# Altium integrated library Micron Memory Parallel NOR Flash.IntLib: 720 symbols (part 158 of 216)
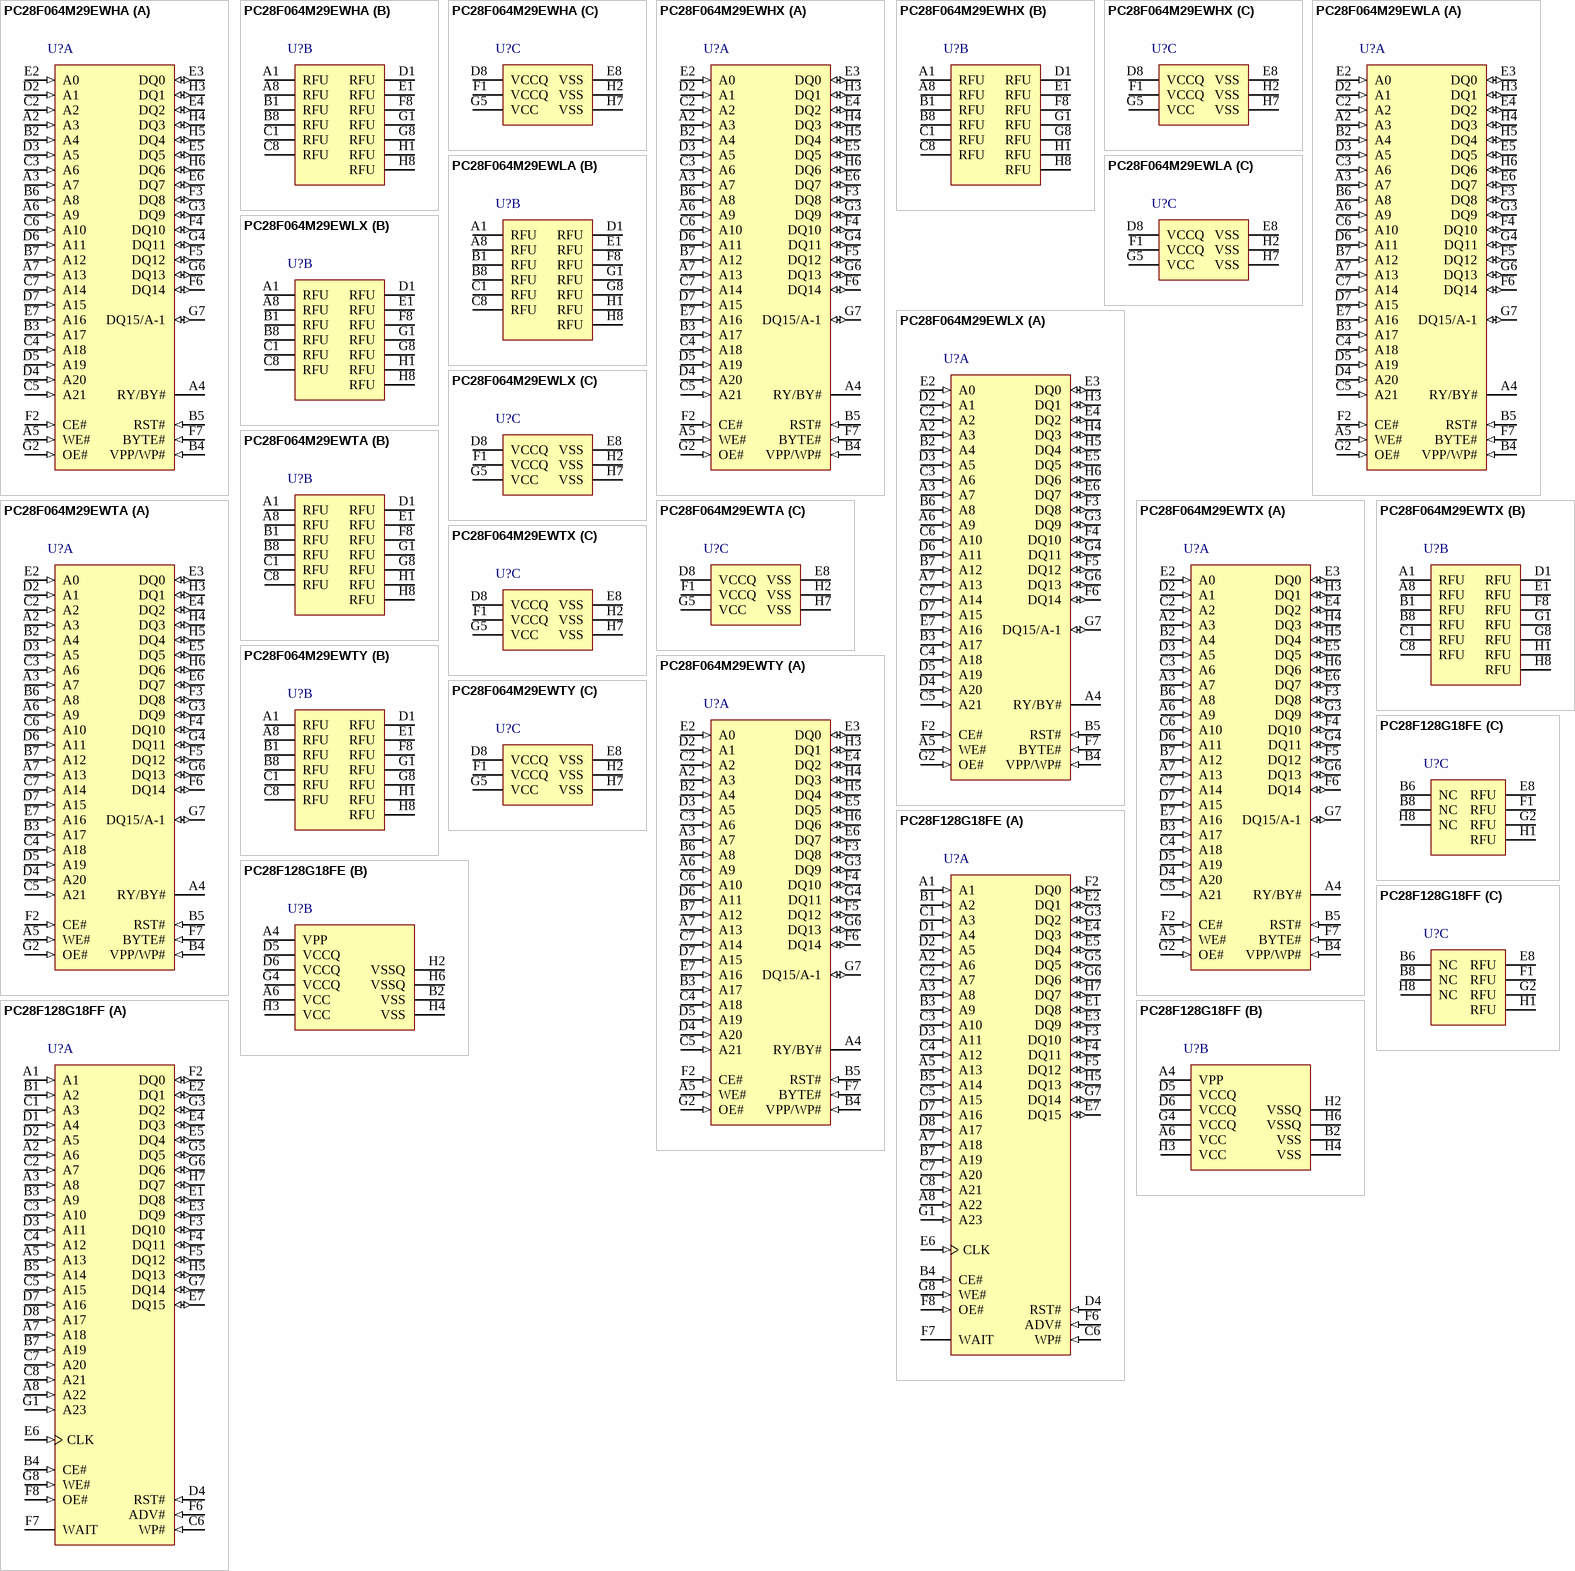
[diagram p192: symbols PC28F064M29EWHA to PC28F128G18FF]

## PC28F128G18FE
designator U?
128 Mb (x16) Parallel NOR Flash Memory, 96 ns, 1.7 to 2.0 V, 64-ball Easy BGA (PC), Tray; Part Family: G18; Manufacturer: Micron; PartNumber: PC28F128G18FE; Density: 128Mb; Op Temp: -40C to +85C; Speed: 96ns; Voltage: 1.7V-2.0V; DatasheetVersion: Rev. F; PackageVersion: Rev. 5; PackageReference: MICT-PC-64-8000X10000X1200DEA; PackageDescription: 64-Ball BGA, 8 x 10 mm, Pitch 1 mm; RoHS: Yes; Width: x16; Mounting Technology: Surface Mount; ComponentLink1Description: Manufacturer URL; ComponentLink1URL: http://www.micron.com/; ComponentLink2Description: Datasheet; ComponentLink2URL: http://www.micron.com/~/media/Documents/Products/Data%20Sheet/NOR%20Flash/Parallel/G18/128_256_512_1Gb_65nm_g18.pdf; ComponentLink3Description: Package Specification; ComponentLink3URL: http://www.micron.com/~/media/Documents/Products/Data%20Sheet/NOR%20Flash/Parallel/P33/314749_P33_130nm_Discrete_DS.pdf
footprint MICT-PC-64-8000X10000X1200DEA (BGA, 64-Balls, Body 10x8mm, Pitch 1mm)
part A pins: A1 (in) "Address Input: Address Input for all READ/WRITE cycles.", A2 A6 (in) "Address Input: Address Input for all READ/WRITE cycles.", A3 A8 (in) "Address Input: Address Input for all READ/WRITE cycles.", A5 A13 (in) "Address Input: Address Input for all READ/WRITE cycles.", A7 A18 (in) "Address Input: Address Input for all READ/WRITE cycles.", A8 A22 (in) "Address Input: Address Input for all READ/WRITE cycles.", B1 A2 (in) "Address Input: Address Input for all READ/WRITE cycles.", B3 A9 (in) "Address Input: Address Input for all READ/WRITE cycles.", B4 CE# (in) "Chip enable: LOW true input. When LOW, CE# selects the die; when HIGH, CE# deselects the die and places it in standby.", B5 A14 (in) "Address Input: Address Input for all READ/WRITE cycles.", B7 A19 (in) "Address Input: Address Input for all READ/WRITE cycles.", C1 A3 (in) "Address Input: Address Input for all READ/WRITE cycles.", C2 A7 (in) "Address Input: Address Input for all READ/WRITE cycles.", C3 A10 (in) "Address Input: Address Input for all READ/WRITE cycles.", C4 A12 (in) "Address Input: Address Input for all READ/WRITE cycles.", C5 A15 (in) "Address Input: Address Input for all READ/WRITE cycles.", C6 WP# (in) "Write protect: LOW true input. When LOW, WP# enables block lock down; when HIGH, WP# disables block lock down.", C7 A20 (in) "Address Input: Address Input for all READ/WRITE cycles.", C8 A21 (in) "Address Input: Address Input for all READ/WRITE cycles.", D1 A4 (in) "Address Input: Address Input for all READ/WRITE cycles.", D2 A5 (in) "Address Input: Address Input for all READ/WRITE cycles.", D3 A11 (in) "Address Input: Address Input for all READ/WRITE cycles.", D4 RST# (in) "Reset: LOW true input. When LOW, RST# inhibits all operations; must be HIGH for normal operations.", D7 A16 (in) "Address Input: Address Input for all READ/WRITE cycles.", D8 A17 (in) "Address Input: Address Input for all READ/WRITE cycles.", E1 DQ8 (io) "Data: Data or command Input during WRITE cycles; data, status, or device information Output during READ cycles.", E2 DQ1 (io) "Data: Data or command Input during WRITE cycles; data, status, or device information Output during READ cycles.", E3 DQ9 (io) "Data: Data or command Input during WRITE cycles; data, status, or device information Output during READ cycles.", E4 DQ3 (io) "Data: Data or command Input during WRITE cycles; data, status, or device information Output during READ cycles.", E5 DQ4 (io) "Data: Data or command Input during WRITE cycles; data, status, or device information Output during READ cycles.", E6 CLK (in) "Clock: Synchronizes burst READ operations with the host controller.", E7 DQ15 (io) "Data: Data or command inputs during WRITE cycles; data, status, or device information outputs during READ cycles.", F2 DQ0 (io) "Data: Data or command Input during WRITE cycles; data, status, or device information Output during READ cycles.", F3 DQ10 (io) "Data: Data or command Input during WRITE cycles; data, status, or device information Output during READ cycles.", F4 DQ11 (io) "Data: Data or command Input during WRITE cycles; data, status, or device information Output during READ cycles.", F5 DQ12 (io) "Data: Data or command Input during WRITE cycles; data, status, or device information Output during READ cycles.", F6 ADV# (in) "Address valid: LOW true input. When LOW, ADV# enables address inputs. For synchronous burst READs, address inputs are latched on the rising edge.", F7 WAIT (hiz) "WAIT: Configurable HIGH or LOW true output. When asserted, WAIT indicates DQ[15:0] is invalid; when de-asserted, WAIT indicates DQ[15:0] is valid.", F8 OE# (in) "Output enable: LOW true input. Must be LOW for READs and HIGH for WRITEs.", G1 A23 (in) "Address Input: Address Input for all READ/WRITE cycles.", G3 DQ2 (io) "Data: Data or command input during WRITE cycles; data, status, or device information Output during READ cycles.", G5 DQ5 (io) "Data: Data or command Input during WRITE cycles; data, status, or device information Output during READ cycles.", G6 DQ6 (io) "Data: Data or command Input during WRITE cycles; data, status, or device information Output during READ cycles.", G7 DQ14 (io) "Data: Data or command Input during WRITE cycles; data, status, or device information Output during READ cycles.", G8 WE# (in) "Write enable: LOW true input. Must be LOW for WRITEs and HIGH for READs.", H5 DQ13 (io) "Data: Data or command Input during WRITE cycles; data, status, or device information Output during READ cycles.", H7 DQ7 (io) "Data: Data or command Input during WRITE cycles; data, status, or device information Output during READ cycles."
part B pins: A4 VPP (power) "Erase and Program Power: A valid voltage on this pin allows erasing or programming. Memory contents cannot be altered when VPP =< VPPLK. Block erase and program at invalid VPP voltages should not be attempted. Set VPP = VPPL (See Datasheet)", A6 VCC (power) "Device Core Power Supply: Core (logic) source voltage. Writes to the flash array are inhibited when VCC =< VLKO. Operations at invalid VCC voltages should not be attempted.", B2 VSS (power) "Ground: Connect to system ground. Do not float any VSS connection.", D5 VCCQ (power) "I/O power: Supply voltage for all I/O drivers. All operations are inhibited when VCCQ is at or below VLKOQ.", D6 VCCQ (power) "I/O power: Supply voltage for all I/O drivers. All operations are inhibited when VCCQ is at or below VLKOQ.", G4 VCCQ (power) "I/O power: Supply voltage for all I/O drivers. All operations are inhibited when VCCQ is at or below VLKOQ.", H2 VSSQ (power) "I/O ground: I/O driver ground return. Connect all VSSQ balls to system ground; do not float any VSSQ balls.", H3 VCC (power) "Core power: Supply voltage for core circuits. All operations are inhibited when VCC is at or below VLKO.", H4 VSS (power) "Logic ground: Core logic ground return. Connect all VSS balls to system ground; do not float any VSS balls.", H6 VSSQ (power) "I/O ground: I/O driver ground return. Connect all VSSQ balls to system ground; do not float any VSSQ balls."
part C pins: B6 NC "no connect", B8 NC "no connect", E8 RFU "Reserved for Future Use: Reserved by Numonyx for future device functionality and enhancement. These should be treated in the same way as a Do Not Use (DU) signal.", F1 RFU "Reserved for Future Use: Reserved by Numonyx for future device functionality and enhancement. These should be treated in the same way as a Do Not Use (DU) signal.", G2 RFU "Reserved for Future Use: Reserved by Numonyx for future device functionality and enhancement. These should be treated in the same way as a Do Not Use (DU) signal.", H1 RFU "Reserved for Future Use: Reserved by Numonyx for future device functionality and enhancement. These should be treated in the same way as a Do Not Use (DU) signal.", H8 NC "no connect"

## PC28F128G18FF
designator U?
128 Mb (x16) Parallel NOR Flash Memory, 96 ns, 1.7 to 2.0 V, 64-ball Easy BGA (PC), Tape & Reel; Part Family: G18; Manufacturer: Micron; PartNumber: PC28F128G18FF; Density: 128Mb; Op Temp: -40C to +85C; Speed: 96ns; Voltage: 1.7V-2.0V; DatasheetVersion: Rev. F; PackageVersion: Rev. 5; PackageReference: MICT-PC-64-8000X10000X1200DEA; PackageDescription: 64-Ball BGA, 8 x 10 mm, Pitch 1 mm; RoHS: Yes; Width: x16; Mounting Technology: Surface Mount; ComponentLink1Description: Manufacturer URL; ComponentLink1URL: http://www.micron.com/; ComponentLink2Description: Datasheet; ComponentLink2URL: http://www.micron.com/~/media/Documents/Products/Data%20Sheet/NOR%20Flash/Parallel/G18/128_256_512_1Gb_65nm_g18.pdf; ComponentLink3Description: Package Specification; ComponentLink3URL: http://www.micron.com/~/media/Documents/Products/Data%20Sheet/NOR%20Flash/Parallel/P33/314749_P33_130nm_Discrete_DS.pdf
footprint MICT-PC-64-8000X10000X1200DEA (BGA, 64-Balls, Body 10x8mm, Pitch 1mm)
part A pins: A1 (in) "Address Input: Address Input for all READ/WRITE cycles.", A2 A6 (in) "Address Input: Address Input for all READ/WRITE cycles.", A3 A8 (in) "Address Input: Address Input for all READ/WRITE cycles.", A5 A13 (in) "Address Input: Address Input for all READ/WRITE cycles.", A7 A18 (in) "Address Input: Address Input for all READ/WRITE cycles.", A8 A22 (in) "Address Input: Address Input for all READ/WRITE cycles.", B1 A2 (in) "Address Input: Address Input for all READ/WRITE cycles.", B3 A9 (in) "Address Input: Address Input for all READ/WRITE cycles.", B4 CE# (in) "Chip enable: LOW true input. When LOW, CE# selects the die; when HIGH, CE# deselects the die and places it in standby.", B5 A14 (in) "Address Input: Address Input for all READ/WRITE cycles.", B7 A19 (in) "Address Input: Address Input for all READ/WRITE cycles.", C1 A3 (in) "Address Input: Address Input for all READ/WRITE cycles.", C2 A7 (in) "Address Input: Address Input for all READ/WRITE cycles.", C3 A10 (in) "Address Input: Address Input for all READ/WRITE cycles.", C4 A12 (in) "Address Input: Address Input for all READ/WRITE cycles.", C5 A15 (in) "Address Input: Address Input for all READ/WRITE cycles.", C6 WP# (in) "Write protect: LOW true input. When LOW, WP# enables block lock down; when HIGH, WP# disables block lock down.", C7 A20 (in) "Address Input: Address Input for all READ/WRITE cycles.", C8 A21 (in) "Address Input: Address Input for all READ/WRITE cycles.", D1 A4 (in) "Address Input: Address Input for all READ/WRITE cycles.", D2 A5 (in) "Address Input: Address Input for all READ/WRITE cycles.", D3 A11 (in) "Address Input: Address Input for all READ/WRITE cycles.", D4 RST# (in) "Reset: LOW true input. When LOW, RST# inhibits all operations; must be HIGH for normal operations.", D7 A16 (in) "Address Input: Address Input for all READ/WRITE cycles.", D8 A17 (in) "Address Input: Address Input for all READ/WRITE cycles.", E1 DQ8 (io) "Data: Data or command Input during WRITE cycles; data, status, or device information Output during READ cycles.", E2 DQ1 (io) "Data: Data or command Input during WRITE cycles; data, status, or device information Output during READ cycles.", E3 DQ9 (io) "Data: Data or command Input during WRITE cycles; data, status, or device information Output during READ cycles.", E4 DQ3 (io) "Data: Data or command Input during WRITE cycles; data, status, or device information Output during READ cycles.", E5 DQ4 (io) "Data: Data or command Input during WRITE cycles; data, status, or device information Output during READ cycles.", E6 CLK (in) "Clock: Synchronizes burst READ operations with the host controller.", E7 DQ15 (io) "Data: Data or command inputs during WRITE cycles; data, status, or device information outputs during READ cycles.", F2 DQ0 (io) "Data: Data or command Input during WRITE cycles; data, status, or device information Output during READ cycles.", F3 DQ10 (io) "Data: Data or command Input during WRITE cycles; data, status, or device information Output during READ cycles.", F4 DQ11 (io) "Data: Data or command Input during WRITE cycles; data, status, or device information Output during READ cycles.", F5 DQ12 (io) "Data: Data or command Input during WRITE cycles; data, status, or device information Output during READ cycles.", F6 ADV# (in) "Address valid: LOW true input. When LOW, ADV# enables address inputs. For synchronous burst READs, address inputs are latched on the rising edge.", F7 WAIT (hiz) "WAIT: Configurable HIGH or LOW true output. When asserted, WAIT indicates DQ[15:0] is invalid; when de-asserted, WAIT indicates DQ[15:0] is valid.", F8 OE# (in) "Output enable: LOW true input. Must be LOW for READs and HIGH for WRITEs.", G1 A23 (in) "Address Input: Address Input for all READ/WRITE cycles.", G3 DQ2 (io) "Data: Data or command input during WRITE cycles; data, status, or device information Output during READ cycles.", G5 DQ5 (io) "Data: Data or command Input during WRITE cycles; data, status, or device information Output during READ cycles.", G6 DQ6 (io) "Data: Data or command Input during WRITE cycles; data, status, or device information Output during READ cycles.", G7 DQ14 (io) "Data: Data or command Input during WRITE cycles; data, status, or device information Output during READ cycles.", G8 WE# (in) "Write enable: LOW true input. Must be LOW for WRITEs and HIGH for READs.", H5 DQ13 (io) "Data: Data or command Input during WRITE cycles; data, status, or device information Output during READ cycles.", H7 DQ7 (io) "Data: Data or command Input during WRITE cycles; data, status, or device information Output during READ cycles."
part B pins: A4 VPP (power) "Erase and Program Power: A valid voltage on this pin allows erasing or programming. Memory contents cannot be altered when VPP =< VPPLK. Block erase and program at invalid VPP voltages should not be attempted. Set VPP = VPPL (See Datasheet)", A6 VCC (power) "Device Core Power Supply: Core (logic) source voltage. Writes to the flash array are inhibited when VCC =< VLKO. Operations at invalid VCC voltages should not be attempted.", B2 VSS (power) "Ground: Connect to system ground. Do not float any VSS connection.", D5 VCCQ (power) "I/O power: Supply voltage for all I/O drivers. All operations are inhibited when VCCQ is at or below VLKOQ.", D6 VCCQ (power) "I/O power: Supply voltage for all I/O drivers. All operations are inhibited when VCCQ is at or below VLKOQ.", G4 VCCQ (power) "I/O power: Supply voltage for all I/O drivers. All operations are inhibited when VCCQ is at or below VLKOQ.", H2 VSSQ (power) "I/O ground: I/O driver ground return. Connect all VSSQ balls to system ground; do not float any VSSQ balls.", H3 VCC (power) "Core power: Supply voltage for core circuits. All operations are inhibited when VCC is at or below VLKO.", H4 VSS (power) "Logic ground: Core logic ground return. Connect all VSS balls to system ground; do not float any VSS balls.", H6 VSSQ (power) "I/O ground: I/O driver ground return. Connect all VSSQ balls to system ground; do not float any VSSQ balls."
part C pins: B6 NC "no connect", B8 NC "no connect", E8 RFU "Reserved for Future Use: Reserved by Numonyx for future device functionality and enhancement. These should be treated in the same way as a Do Not Use (DU) signal.", F1 RFU "Reserved for Future Use: Reserved by Numonyx for future device functionality and enhancement. These should be treated in the same way as a Do Not Use (DU) signal.", G2 RFU "Reserved for Future Use: Reserved by Numonyx for future device functionality and enhancement. These should be treated in the same way as a Do Not Use (DU) signal.", H1 RFU "Reserved for Future Use: Reserved by Numonyx for future device functionality and enhancement. These should be treated in the same way as a Do Not Use (DU) signal.", H8 NC "no connect"

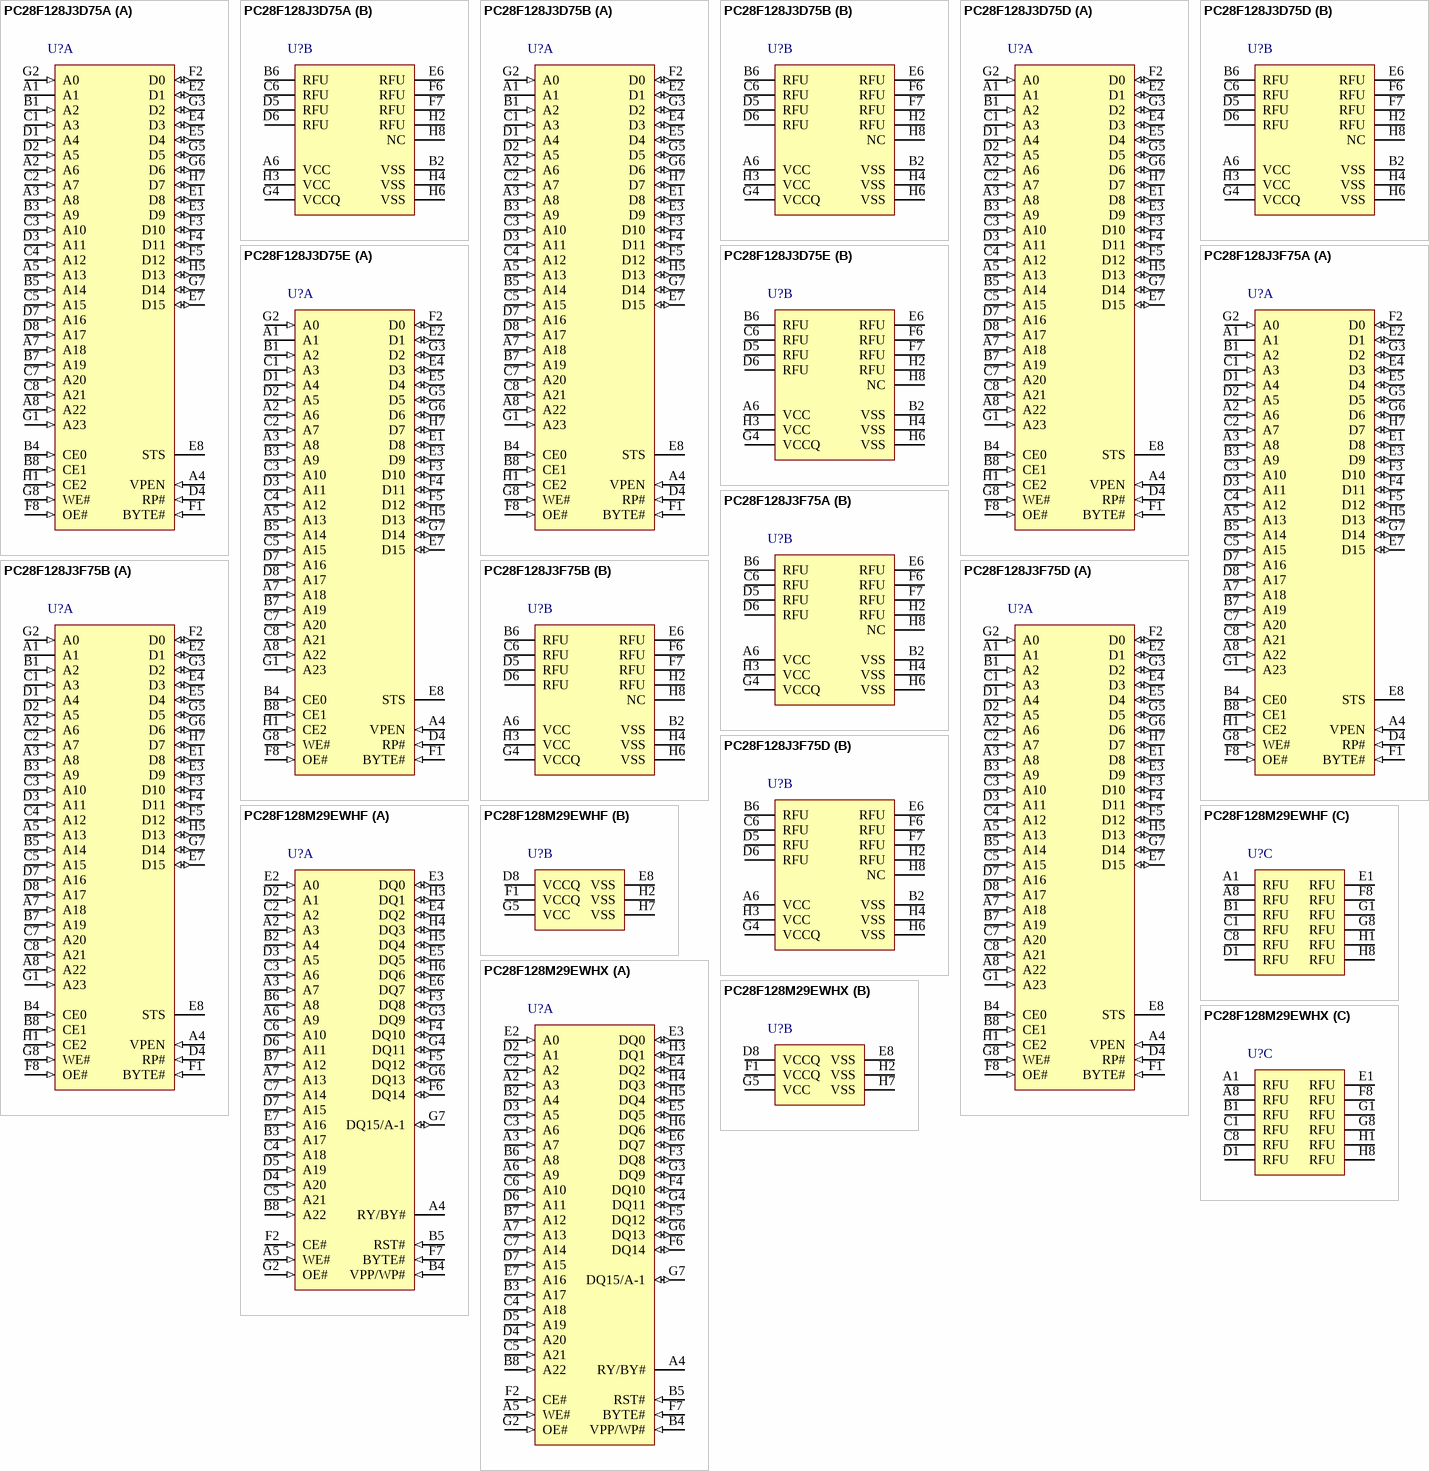
[diagram p42: symbols PC28F128J3D75A to PC28F128M29EWHX]

## PC28F128J3D75A
designator U?
128 Mb (x8/x16) Parallel NOR Flash Memory, 75 ns, 2.7 to 3.6 V, 64-ball Easy BGA (PC), Tray; Part Family: J3; Manufacturer: Micron; PartNumber: PC28F128J3D75A; Density: 128Mb; Op Temp: -40C to +85C; Speed: 75ns; Voltage: 2.7V-3.6V; DatasheetVersion: Rev. 06; PackageVersion: Rev. 10; PackageReference: MICT-PC-64-13000X10000X1200DEA; PackageDescription: 64-Ball BGA, 13 x 10 mm, Pitch 1 mm; RoHS: Yes; Width: x8/x16; Mounting Technology: Surface Mount; ComponentLink1Description: Manufacturer URL; ComponentLink1URL: http://www.micron.com/; ComponentLink2Description: Datasheet; ComponentLink2URL: http://www.micron.com/~/media/Documents/Products/Data%20Sheet/NOR%20Flash/Parallel/J3/316577_J3D_Monolithic_DS.pdf; ComponentLink3Description: Package Specification; ComponentLink3URL: http://www.micron.com/~/media/Documents/Products/Data%20Sheet/NOR%20Flash/Parallel/J3/316577_J3D_Monolithic_DS.pdf
footprint MICT-PC-64-13000X10000X1200DEA (BGA, 64-Balls, Body 13x10mm, Pitch 1mm)
part A pins: A1, A2 A6 (in) "ADDRESS INPUT: Input for address during read and program operations.", A3 A8 (in) "ADDRESS INPUT: Input for address during read and program operations.", A4 VPEN (in) "ERASE / PROGRAM / BLOCK LOCK ENABLE: For erasing array blocks, programming data, or configuring lock-bits. With VPEN =< VPENLK, memory contents cannot be altered.", A5 A13 (in) "ADDRESS INPUT: Input for address during read and program operations.", A7 A18 (in) "ADDRESS INPUT: Input for address during read and program operations.", A8 A22 (in) "ADDRESS INPUT: Input for address during read and program operations.", B1 A2 (in) "ADDRESS INPUT: Input for address during read and program operations.", B3 A9 (in) "ADDRESS INPUT: Input for address during read and program operations.", B4 CE0 (in) "CHIP ENABLE: Activate the 32-, 64-, 128-, and 256-Mbit devices’ control logic, input buffers, decoders, and sense amplifiers. When the device is de-selected (see Table 16, "Chip Enable Truth Table for 32-, 64-, 128- and (See Datasheet)", B5 A14 (in) "ADDRESS INPUT: Input for address during read and program operations.", B7 A19 (in) "ADDRESS INPUT: Input for address during read and program operations.", B8 CE1 (in) "CHIP ENABLE: Activate the 32-, 64-, 128-, and 256-Mbit devices’ control logic, input buffers, decoders, and sense amplifiers. When the device is de-selected (see Table 16, "Chip Enable Truth Table for 32-, 64-, 128- and (See Datasheet)", C1 A3 (in) "ADDRESS INPUT: Input for address during read and program operations.", C2 A7 (in) "ADDRESS INPUT: Input for address during read and program operations.", C3 A10 (in) "ADDRESS INPUT: Input for address during read and program operations.", C4 A12 (in) "ADDRESS INPUT: Input for address during read and program operations.", C5 A15 (in) "ADDRESS INPUT: Input for address during read and program operations.", C7 A20 (in) "ADDRESS INPUT: Input for address during read and program operations.", C8 A21 (in) "ADDRESS INPUT: Input for address during read and program operations.", D1 A4 (in) "ADDRESS INPUT: Input for address during read and program operations.", D2 A5 (in) "ADDRESS INPUT: Input for address during read and program operations.", D3 A11 (in) "ADDRESS INPUT: Input for address during read and program operations.", D4 RP# (in) "RESET: RP#-low resets internal automation and puts the device in power-down mode. RP#-high enables normal operation. Exit from reset sets the device to read array mode. When driven low, RP# inhibits write operations which (See Datasheet)", D7 A16 (in) "ADDRESS INPUT: Input for address during read and program operations.", D8 A17 (in) "ADDRESS INPUT: Input for address during read and program operations.", E1 D8 (io) "HIGH-BYTE DATA BUS: Inputs data during x16 buffer writes and programming operations. Outputs array, CFI, or identifier data in the appropriate read mode; not used for Status Register reads. Data is internally latched during (See Datasheet)", E2 D1 (io) "LOW-BYTE DATA BUS: Inputs data during buffer writes and programming, and inputs commands during CUI writes. Outputs array, CFI, identifier, or status data in the appropriate read mode. Data is internally latched during write (See Datasheet)", E3 D9 (io) "HIGH-BYTE DATA BUS: Inputs data during x16 buffer writes and programming operations. Outputs array, CFI, or identifier data in the appropriate read mode; not used for Status Register reads. Data is internally latched during (See Datasheet)", E4 D3 (io) "LOW-BYTE DATA BUS: Inputs data during buffer writes and programming, and inputs commands during CUI writes. Outputs array, CFI, identifier, or status data in the appropriate read mode. Data is internally latched during write (See Datasheet)", E5 D4 (io) "LOW-BYTE DATA BUS: Inputs data during buffer writes and programming, and inputs commands during CUI writes. Outputs array, CFI, identifier, or status data in the appropriate read mode. Data is internally latched during write (See Datasheet)", E7 D15 (io) "HIGH-BYTE DATA BUS: Inputs data during x16 buffer writes and programming operations. Outputs array, CFI, or identifier data in the appropriate read mode; not used for Status Register reads. Data is internally latched during (See Datasheet)", E8 STS (hiz) "STATUS: Indicates the status of the internal state machine. When configured in level mode (default), it acts as a RY/BY# signal. When configured in one of its pulse modes, it can pulse to indicate program and/or erase (See Datasheet)", F1 BYTE# (in) "BYTE ENABLE: BYTE#-low places the device in x8 mode; data is input or output on D[7:0], while D[15:8] is placed in High-Z. Address A0 selects between the high and low byte. BYTE#-high places the device in x16 mode, and turns (See Datasheet)", F2 D0 (io) "LOW-BYTE DATA BUS: Inputs data during buffer writes and programming, and Inputs commands during CUI writes. Outputs array, CFI, identifier, or status data in the appropriate read mode. Data is internally latched during write (See Datasheet)", F3 D10 (io) "HIGH-BYTE DATA BUS: Inputs data during x16 buffer writes and programming operations. Outputs array, CFI, or identifier data in the appropriate read mode; not used for Status Register reads. Data is internally latched during (See Datasheet)", F4 D11 (io) "HIGH-BYTE DATA BUS: Inputs data during x16 buffer writes and programming operations. Outputs array, CFI, or identifier data in the appropriate read mode; not used for Status Register reads. Data is internally latched during (See Datasheet)", F5 D12 (io) "HIGH-BYTE DATA BUS: Inputs data during x16 buffer writes and programming operations. Outputs array, CFI, or identifier data in the appropriate read mode; not used for Status Register reads. Data is internally latched during (See Datasheet)", F8 OE# (in) "OUTPUT ENABLE: Activates the device’s outputs through the data buffers during a read cycle. OE# is active low.", G1 A23 (in) "ADDRESS INPUT: Input for address during read and program operations.", G2 A0 (in) "BYTE-SELECT ADDRESS: Selects between high and low byte when the device is in x8 mode. This address is latched during a x8 program cycle. Not used in x16 mode (i.e., the A0 input buffer is turned off when BYTE# is high).", G3 D2 (io) "LOW-BYTE DATA BUS: Inputs data during buffer writes and programming, and inputs commands during CUI writes. Outputs array, CFI, identifier, or status data in the appropriate read mode. Data is internally latched during write (See Datasheet)", G5 D5 (io) "LOW-BYTE DATA BUS: Inputs data during buffer writes and programming, and inputs commands during CUI writes. Outputs array, CFI, identifier, or status data in the appropriate read mode. Data is internally latched during write (See Datasheet)", G6 D6 (io) "LOW-BYTE DATA BUS: Inputs data during buffer writes and programming, and inputs commands during CUI writes. Outputs array, CFI, identifier, or status data in the appropriate read mode. Data is internally latched during write (See Datasheet)", G7 D14 (io) "HIGH-BYTE DATA BUS: Inputs data during x16 buffer writes and programming operations. Outputs array, CFI, or identifier data in the appropriate read mode; not used for Status Register reads. Data is internally latched during (See Datasheet)", G8 WE# (in) "WRITE ENABLE: Controls writes to the CUI, the Write Buffer, and array blocks. WE# is active low. Addresses and data are latched on the rising edge of WE#.", H1 CE2 (in) "CHIP ENABLE: Activate the 32-, 64-, 128-, and 256-Mbit devices’ control logic, input buffers, decoders, and sense amplifiers. When the device is de-selected (see Table 16, "Chip Enable Truth Table for 32-, 64-, 128- and (See Datasheet)", H5 D13 (io) "HIGH-BYTE DATA BUS: Inputs data during x16 buffer writes and programming operations. Outputs array, CFI, or identifier data in the appropriate read mode; not used for Status Register reads. Data is internally latched during (See Datasheet)", H7 D7 (io) "LOW-BYTE DATA BUS: Inputs data during buffer writes and programming, and inputs commands during CUI writes. Outputs array, CFI, identifier, or status data in the appropriate read mode. Data is internally latched during write (See Datasheet)"
part B pins: A6 VCC (power) "CORE Power Supply: Core (logic) source voltage. Writes to the flash array are inhibited when VCC =< Vlko. Caution: Device operation at invalid Vcc voltages should not be attempted.", B2 VSS (power) "GROUND: Ground reference for device logic voltages. Connect to system ground.", B6 RFU "Reserved for Future Use: Balls designated as RFU are reserved by Numonyx for future device functionality and enhancement.", C6 RFU "Reserved for Future Use: Balls designated as RFU are reserved by Numonyx for future device functionality and enhancement.", D5 RFU "Reserved for Future Use: Balls designated as RFU are reserved by Numonyx for future device functionality and enhancement.", D6 RFU "Reserved for Future Use: Balls designated as RFU are reserved by Numonyx for future device functionality and enhancement.", E6 RFU "Reserved for Future Use: Balls designated as RFU are reserved by Numonyx for future device functionality and enhancement.", F6 RFU "Reserved for Future Use: Balls designated as RFU are reserved by Numonyx for future device functionality and enhancement.", F7 RFU "Reserved for Future Use: Balls designated as RFU are reserved by Numonyx for future device functionality and enhancement.", G4 VCCQ (power) "I/O Power Supply: Power supply for Input/Output buffers.This ball can be tied directly to VCC.", H2 RFU "Reserved for Future Use: Balls designated as RFU are reserved by Numonyx for future device functionality and enhancement.", H3 VCC (power) "CORE Power Supply: Core (logic) source voltage. Writes to the flash array are inhibited when VCC =< Vlko. Caution: Device operation at invalid Vcc voltages should not be attempted.", H4 VSS (power) "GROUND: Ground reference for device logic voltages. Connect to system ground.", H6 VSS (power) "GROUND: Ground reference for device logic voltages. Connect to system ground.", H8 NC "No Connect: Lead is not internally connected; it may be driven or floated."

## PC28F128J3D75B
designator U?
128 Mb (x8/x16) Parallel NOR Flash Memory, 75 ns, 2.7 to 3.6 V, 64-ball Easy BGA (PC), Tape & Reel; Part Family: J3; Manufacturer: Micron; PartNumber: PC28F128J3D75B; Density: 128Mb; Op Temp: -40C to +85C; Speed: 75ns; Voltage: 2.7V-3.6V; DatasheetVersion: Rev. 06; PackageVersion: Rev. 10; PackageReference: MICT-PC-64-13000X10000X1200DEA; PackageDescription: 64-Ball BGA, 13 x 10 mm, Pitch 1 mm; RoHS: Yes; Width: x8/x16; Mounting Technology: Surface Mount; ComponentLink1Description: Manufacturer URL; ComponentLink1URL: http://www.micron.com/; ComponentLink2Description: Datasheet; ComponentLink2URL: http://www.micron.com/~/media/Documents/Products/Data%20Sheet/NOR%20Flash/Parallel/J3/316577_J3D_Monolithic_DS.pdf; ComponentLink3Description: Package Specification; ComponentLink3URL: http://www.micron.com/~/media/Documents/Products/Data%20Sheet/NOR%20Flash/Parallel/J3/316577_J3D_Monolithic_DS.pdf
footprint MICT-PC-64-13000X10000X1200DEA (BGA, 64-Balls, Body 13x10mm, Pitch 1mm)
part A pins: A1, A2 A6 (in) "ADDRESS INPUT: Input for address during read and program operations.", A3 A8 (in) "ADDRESS INPUT: Input for address during read and program operations.", A4 VPEN (in) "ERASE / PROGRAM / BLOCK LOCK ENABLE: For erasing array blocks, programming data, or configuring lock-bits. With VPEN =< VPENLK, memory contents cannot be altered.", A5 A13 (in) "ADDRESS INPUT: Input for address during read and program operations.", A7 A18 (in) "ADDRESS INPUT: Input for address during read and program operations.", A8 A22 (in) "ADDRESS INPUT: Input for address during read and program operations.", B1 A2 (in) "ADDRESS INPUT: Input for address during read and program operations.", B3 A9 (in) "ADDRESS INPUT: Input for address during read and program operations.", B4 CE0 (in) "CHIP ENABLE: Activate the 32-, 64-, 128-, and 256-Mbit devices’ control logic, input buffers, decoders, and sense amplifiers. When the device is de-selected (see Table 16, "Chip Enable Truth Table for 32-, 64-, 128- and (See Datasheet)", B5 A14 (in) "ADDRESS INPUT: Input for address during read and program operations.", B7 A19 (in) "ADDRESS INPUT: Input for address during read and program operations.", B8 CE1 (in) "CHIP ENABLE: Activate the 32-, 64-, 128-, and 256-Mbit devices’ control logic, input buffers, decoders, and sense amplifiers. When the device is de-selected (see Table 16, "Chip Enable Truth Table for 32-, 64-, 128- and (See Datasheet)", C1 A3 (in) "ADDRESS INPUT: Input for address during read and program operations.", C2 A7 (in) "ADDRESS INPUT: Input for address during read and program operations.", C3 A10 (in) "ADDRESS INPUT: Input for address during read and program operations.", C4 A12 (in) "ADDRESS INPUT: Input for address during read and program operations.", C5 A15 (in) "ADDRESS INPUT: Input for address during read and program operations.", C7 A20 (in) "ADDRESS INPUT: Input for address during read and program operations.", C8 A21 (in) "ADDRESS INPUT: Input for address during read and program operations.", D1 A4 (in) "ADDRESS INPUT: Input for address during read and program operations.", D2 A5 (in) "ADDRESS INPUT: Input for address during read and program operations.", D3 A11 (in) "ADDRESS INPUT: Input for address during read and program operations.", D4 RP# (in) "RESET: RP#-low resets internal automation and puts the device in power-down mode. RP#-high enables normal operation. Exit from reset sets the device to read array mode. When driven low, RP# inhibits write operations which (See Datasheet)", D7 A16 (in) "ADDRESS INPUT: Input for address during read and program operations.", D8 A17 (in) "ADDRESS INPUT: Input for address during read and program operations.", E1 D8 (io) "HIGH-BYTE DATA BUS: Inputs data during x16 buffer writes and programming operations. Outputs array, CFI, or identifier data in the appropriate read mode; not used for Status Register reads. Data is internally latched during (See Datasheet)", E2 D1 (io) "LOW-BYTE DATA BUS: Inputs data during buffer writes and programming, and inputs commands during CUI writes. Outputs array, CFI, identifier, or status data in the appropriate read mode. Data is internally latched during write (See Datasheet)", E3 D9 (io) "HIGH-BYTE DATA BUS: Inputs data during x16 buffer writes and programming operations. Outputs array, CFI, or identifier data in the appropriate read mode; not used for Status Register reads. Data is internally latched during (See Datasheet)", E4 D3 (io) "LOW-BYTE DATA BUS: Inputs data during buffer writes and programming, and inputs commands during CUI writes. Outputs array, CFI, identifier, or status data in the appropriate read mode. Data is internally latched during write (See Datasheet)", E5 D4 (io) "LOW-BYTE DATA BUS: Inputs data during buffer writes and programming, and inputs commands during CUI writes. Outputs array, CFI, identifier, or status data in the appropriate read mode. Data is internally latched during write (See Datasheet)", E7 D15 (io) "HIGH-BYTE DATA BUS: Inputs data during x16 buffer writes and programming operations. Outputs array, CFI, or identifier data in the appropriate read mode; not used for Status Register reads. Data is internally latched during (See Datasheet)", E8 STS (hiz) "STATUS: Indicates the status of the internal state machine. When configured in level mode (default), it acts as a RY/BY# signal. When configured in one of its pulse modes, it can pulse to indicate program and/or erase (See Datasheet)", F1 BYTE# (in) "BYTE ENABLE: BYTE#-low places the device in x8 mode; data is input or output on D[7:0], while D[15:8] is placed in High-Z. Address A0 selects between the high and low byte. BYTE#-high places the device in x16 mode, and turns (See Datasheet)", F2 D0 (io) "LOW-BYTE DATA BUS: Inputs data during buffer writes and programming, and Inputs commands during CUI writes. Outputs array, CFI, identifier, or status data in the appropriate read mode. Data is internally latched during write (See Datasheet)", F3 D10 (io) "HIGH-BYTE DATA BUS: Inputs data during x16 buffer writes and programming operations. Outputs array, CFI, or identifier data in the appropriate read mode; not used for Status Register reads. Data is internally latched during (See Datasheet)", F4 D11 (io) "HIGH-BYTE DATA BUS: Inputs data during x16 buffer writes and programming operations. Outputs array, CFI, or identifier data in the appropriate read mode; not used for Status Register reads. Data is internally latched during (See Datasheet)", F5 D12 (io) "HIGH-BYTE DATA BUS: Inputs data during x16 buffer writes and programming operations. Outputs array, CFI, or identifier data in the appropriate read mode; not used for Status Register reads. Data is internally latched during (See Datasheet)", F8 OE# (in) "OUTPUT ENABLE: Activates the device’s outputs through the data buffers during a read cycle. OE# is active low.", G1 A23 (in) "ADDRESS INPUT: Input for address during read and program operations.", G2 A0 (in) "BYTE-SELECT ADDRESS: Selects between high and low byte when the device is in x8 mode. This address is latched during a x8 program cycle. Not used in x16 mode (i.e., the A0 input buffer is turned off when BYTE# is high).", G3 D2 (io) "LOW-BYTE DATA BUS: Inputs data during buffer writes and programming, and inputs commands during CUI writes. Outputs array, CFI, identifier, or status data in the appropriate read mode. Data is internally latched during write (See Datasheet)", G5 D5 (io) "LOW-BYTE DATA BUS: Inputs data during buffer writes and programming, and inputs commands during CUI writes. Outputs array, CFI, identifier, or status data in the appropriate read mode. Data is internally latched during write (See Datasheet)", G6 D6 (io) "LOW-BYTE DATA BUS: Inputs data during buffer writes and programming, and inputs commands during CUI writes. Outputs array, CFI, identifier, or status data in the appropriate read mode. Data is internally latched during write (See Datasheet)", G7 D14 (io) "HIGH-BYTE DATA BUS: Inputs data during x16 buffer writes and programming operations. Outputs array, CFI, or identifier data in the appropriate read mode; not used for Status Register reads. Data is internally latched during (See Datasheet)", G8 WE# (in) "WRITE ENABLE: Controls writes to the CUI, the Write Buffer, and array blocks. WE# is active low. Addresses and data are latched on the rising edge of WE#.", H1 CE2 (in) "CHIP ENABLE: Activate the 32-, 64-, 128-, and 256-Mbit devices’ control logic, input buffers, decoders, and sense amplifiers. When the device is de-selected (see Table 16, "Chip Enable Truth Table for 32-, 64-, 128- and (See Datasheet)", H5 D13 (io) "HIGH-BYTE DATA BUS: Inputs data during x16 buffer writes and programming operations. Outputs array, CFI, or identifier data in the appropriate read mode; not used for Status Register reads. Data is internally latched during (See Datasheet)", H7 D7 (io) "LOW-BYTE DATA BUS: Inputs data during buffer writes and programming, and inputs commands during CUI writes. Outputs array, CFI, identifier, or status data in the appropriate read mode. Data is internally latched during write (See Datasheet)"
part B pins: A6 VCC (power) "CORE Power Supply: Core (logic) source voltage. Writes to the flash array are inhibited when VCC =< Vlko. Caution: Device operation at invalid Vcc voltages should not be attempted.", B2 VSS (power) "GROUND: Ground reference for device logic voltages. Connect to system ground.", B6 RFU "Reserved for Future Use: Balls designated as RFU are reserved by Numonyx for future device functionality and enhancement.", C6 RFU "Reserved for Future Use: Balls designated as RFU are reserved by Numonyx for future device functionality and enhancement.", D5 RFU "Reserved for Future Use: Balls designated as RFU are reserved by Numonyx for future device functionality and enhancement.", D6 RFU "Reserved for Future Use: Balls designated as RFU are reserved by Numonyx for future device functionality and enhancement.", E6 RFU "Reserved for Future Use: Balls designated as RFU are reserved by Numonyx for future device functionality and enhancement.", F6 RFU "Reserved for Future Use: Balls designated as RFU are reserved by Numonyx for future device functionality and enhancement.", F7 RFU "Reserved for Future Use: Balls designated as RFU are reserved by Numonyx for future device functionality and enhancement.", G4 VCCQ (power) "I/O Power Supply: Power supply for Input/Output buffers.This ball can be tied directly to VCC.", H2 RFU "Reserved for Future Use: Balls designated as RFU are reserved by Numonyx for future device functionality and enhancement.", H3 VCC (power) "CORE Power Supply: Core (logic) source voltage. Writes to the flash array are inhibited when VCC =< Vlko. Caution: Device operation at invalid Vcc voltages should not be attempted.", H4 VSS (power) "GROUND: Ground reference for device logic voltages. Connect to system ground.", H6 VSS (power) "GROUND: Ground reference for device logic voltages. Connect to system ground.", H8 NC "No Connect: Lead is not internally connected; it may be driven or floated."

## PC28F128J3D75D
designator U?
128 Mb (x8/x16) Parallel NOR Flash Memory, 75 ns, 2.7 to 3.6 V, 64-ball Easy BGA (PC), Tape & Reel; Part Family: J3; Manufacturer: Micron; PartNumber: PC28F128J3D75D; Density: 128Mb; Op Temp: -40C to +85C; Speed: 75ns; Voltage: 2.7V-3.6V; DatasheetVersion: Rev. 06; PackageVersion: Rev. 10; PackageReference: MICT-PC-64-13000X10000X1200DEA; PackageDescription: 64-Ball BGA, 13 x 10 mm, Pitch 1 mm; RoHS: Yes; Width: x8/x16; Mounting Technology: Surface Mount; ComponentLink1Description: Manufacturer URL; ComponentLink1URL: http://www.micron.com/; ComponentLink2Description: Datasheet; ComponentLink2URL: http://www.micron.com/~/media/Documents/Products/Data%20Sheet/NOR%20Flash/Parallel/J3/316577_J3D_Monolithic_DS.pdf; ComponentLink3Description: Package Specification; ComponentLink3URL: http://www.micron.com/~/media/Documents/Products/Data%20Sheet/NOR%20Flash/Parallel/J3/316577_J3D_Monolithic_DS.pdf
footprint MICT-PC-64-13000X10000X1200DEA (BGA, 64-Balls, Body 13x10mm, Pitch 1mm)
part A pins: A1, A2 A6 (in) "ADDRESS INPUT: Input for address during read and program operations.", A3 A8 (in) "ADDRESS INPUT: Input for address during read and program operations.", A4 VPEN (in) "ERASE / PROGRAM / BLOCK LOCK ENABLE: For erasing array blocks, programming data, or configuring lock-bits. With VPEN =< VPENLK, memory contents cannot be altered.", A5 A13 (in) "ADDRESS INPUT: Input for address during read and program operations.", A7 A18 (in) "ADDRESS INPUT: Input for address during read and program operations.", A8 A22 (in) "ADDRESS INPUT: Input for address during read and program operations.", B1 A2 (in) "ADDRESS INPUT: Input for address during read and program operations.", B3 A9 (in) "ADDRESS INPUT: Input for address during read and program operations.", B4 CE0 (in) "CHIP ENABLE: Activate the 32-, 64-, 128-, and 256-Mbit devices’ control logic, input buffers, decoders, and sense amplifiers. When the device is de-selected (see Table 16, "Chip Enable Truth Table for 32-, 64-, 128- and (See Datasheet)", B5 A14 (in) "ADDRESS INPUT: Input for address during read and program operations.", B7 A19 (in) "ADDRESS INPUT: Input for address during read and program operations.", B8 CE1 (in) "CHIP ENABLE: Activate the 32-, 64-, 128-, and 256-Mbit devices’ control logic, input buffers, decoders, and sense amplifiers. When the device is de-selected (see Table 16, "Chip Enable Truth Table for 32-, 64-, 128- and (See Datasheet)", C1 A3 (in) "ADDRESS INPUT: Input for address during read and program operations.", C2 A7 (in) "ADDRESS INPUT: Input for address during read and program operations.", C3 A10 (in) "ADDRESS INPUT: Input for address during read and program operations.", C4 A12 (in) "ADDRESS INPUT: Input for address during read and program operations.", C5 A15 (in) "ADDRESS INPUT: Input for address during read and program operations.", C7 A20 (in) "ADDRESS INPUT: Input for address during read and program operations.", C8 A21 (in) "ADDRESS INPUT: Input for address during read and program operations.", D1 A4 (in) "ADDRESS INPUT: Input for address during read and program operations.", D2 A5 (in) "ADDRESS INPUT: Input for address during read and program operations.", D3 A11 (in) "ADDRESS INPUT: Input for address during read and program operations.", D4 RP# (in) "RESET: RP#-low resets internal automation and puts the device in power-down mode. RP#-high enables normal operation. Exit from reset sets the device to read array mode. When driven low, RP# inhibits write operations which (See Datasheet)", D7 A16 (in) "ADDRESS INPUT: Input for address during read and program operations.", D8 A17 (in) "ADDRESS INPUT: Input for address during read and program operations.", E1 D8 (io) "HIGH-BYTE DATA BUS: Inputs data during x16 buffer writes and programming operations. Outputs array, CFI, or identifier data in the appropriate read mode; not used for Status Register reads. Data is internally latched during (See Datasheet)", E2 D1 (io) "LOW-BYTE DATA BUS: Inputs data during buffer writes and programming, and inputs commands during CUI writes. Outputs array, CFI, identifier, or status data in the appropriate read mode. Data is internally latched during write (See Datasheet)", E3 D9 (io) "HIGH-BYTE DATA BUS: Inputs data during x16 buffer writes and programming operations. Outputs array, CFI, or identifier data in the appropriate read mode; not used for Status Register reads. Data is internally latched during (See Datasheet)", E4 D3 (io) "LOW-BYTE DATA BUS: Inputs data during buffer writes and programming, and inputs commands during CUI writes. Outputs array, CFI, identifier, or status data in the appropriate read mode. Data is internally latched during write (See Datasheet)", E5 D4 (io) "LOW-BYTE DATA BUS: Inputs data during buffer writes and programming, and inputs commands during CUI writes. Outputs array, CFI, identifier, or status data in the appropriate read mode. Data is internally latched during write (See Datasheet)", E7 D15 (io) "HIGH-BYTE DATA BUS: Inputs data during x16 buffer writes and programming operations. Outputs array, CFI, or identifier data in the appropriate read mode; not used for Status Register reads. Data is internally latched during (See Datasheet)", E8 STS (hiz) "STATUS: Indicates the status of the internal state machine. When configured in level mode (default), it acts as a RY/BY# signal. When configured in one of its pulse modes, it can pulse to indicate program and/or erase (See Datasheet)", F1 BYTE# (in) "BYTE ENABLE: BYTE#-low places the device in x8 mode; data is input or output on D[7:0], while D[15:8] is placed in High-Z. Address A0 selects between the high and low byte. BYTE#-high places the device in x16 mode, and turns (See Datasheet)", F2 D0 (io) "LOW-BYTE DATA BUS: Inputs data during buffer writes and programming, and Inputs commands during CUI writes. Outputs array, CFI, identifier, or status data in the appropriate read mode. Data is internally latched during write (See Datasheet)", F3 D10 (io) "HIGH-BYTE DATA BUS: Inputs data during x16 buffer writes and programming operations. Outputs array, CFI, or identifier data in the appropriate read mode; not used for Status Register reads. Data is internally latched during (See Datasheet)", F4 D11 (io) "HIGH-BYTE DATA BUS: Inputs data during x16 buffer writes and programming operations. Outputs array, CFI, or identifier data in the appropriate read mode; not used for Status Register reads. Data is internally latched during (See Datasheet)", F5 D12 (io) "HIGH-BYTE DATA BUS: Inputs data during x16 buffer writes and programming operations. Outputs array, CFI, or identifier data in the appropriate read mode; not used for Status Register reads. Data is internally latched during (See Datasheet)", F8 OE# (in) "OUTPUT ENABLE: Activates the device’s outputs through the data buffers during a read cycle. OE# is active low.", G1 A23 (in) "ADDRESS INPUT: Input for address during read and program operations.", G2 A0 (in) "BYTE-SELECT ADDRESS: Selects between high and low byte when the device is in x8 mode. This address is latched during a x8 program cycle. Not used in x16 mode (i.e., the A0 input buffer is turned off when BYTE# is high).", G3 D2 (io) "LOW-BYTE DATA BUS: Inputs data during buffer writes and programming, and inputs commands during CUI writes. Outputs array, CFI, identifier, or status data in the appropriate read mode. Data is internally latched during write (See Datasheet)", G5 D5 (io) "LOW-BYTE DATA BUS: Inputs data during buffer writes and programming, and inputs commands during CUI writes. Outputs array, CFI, identifier, or status data in the appropriate read mode. Data is internally latched during write (See Datasheet)", G6 D6 (io) "LOW-BYTE DATA BUS: Inputs data during buffer writes and programming, and inputs commands during CUI writes. Outputs array, CFI, identifier, or status data in the appropriate read mode. Data is internally latched during write (See Datasheet)", G7 D14 (io) "HIGH-BYTE DATA BUS: Inputs data during x16 buffer writes and programming operations. Outputs array, CFI, or identifier data in the appropriate read mode; not used for Status Register reads. Data is internally latched during (See Datasheet)", G8 WE# (in) "WRITE ENABLE: Controls writes to the CUI, the Write Buffer, and array blocks. WE# is active low. Addresses and data are latched on the rising edge of WE#.", H1 CE2 (in) "CHIP ENABLE: Activate the 32-, 64-, 128-, and 256-Mbit devices’ control logic, input buffers, decoders, and sense amplifiers. When the device is de-selected (see Table 16, "Chip Enable Truth Table for 32-, 64-, 128- and (See Datasheet)", H5 D13 (io) "HIGH-BYTE DATA BUS: Inputs data during x16 buffer writes and programming operations. Outputs array, CFI, or identifier data in the appropriate read mode; not used for Status Register reads. Data is internally latched during (See Datasheet)", H7 D7 (io) "LOW-BYTE DATA BUS: Inputs data during buffer writes and programming, and inputs commands during CUI writes. Outputs array, CFI, identifier, or status data in the appropriate read mode. Data is internally latched during write (See Datasheet)"
part B pins: A6 VCC (power) "CORE Power Supply: Core (logic) source voltage. Writes to the flash array are inhibited when VCC =< Vlko. Caution: Device operation at invalid Vcc voltages should not be attempted.", B2 VSS (power) "GROUND: Ground reference for device logic voltages. Connect to system ground.", B6 RFU "Reserved for Future Use: Balls designated as RFU are reserved by Numonyx for future device functionality and enhancement.", C6 RFU "Reserved for Future Use: Balls designated as RFU are reserved by Numonyx for future device functionality and enhancement.", D5 RFU "Reserved for Future Use: Balls designated as RFU are reserved by Numonyx for future device functionality and enhancement.", D6 RFU "Reserved for Future Use: Balls designated as RFU are reserved by Numonyx for future device functionality and enhancement.", E6 RFU "Reserved for Future Use: Balls designated as RFU are reserved by Numonyx for future device functionality and enhancement.", F6 RFU "Reserved for Future Use: Balls designated as RFU are reserved by Numonyx for future device functionality and enhancement.", F7 RFU "Reserved for Future Use: Balls designated as RFU are reserved by Numonyx for future device functionality and enhancement.", G4 VCCQ (power) "I/O Power Supply: Power supply for Input/Output buffers.This ball can be tied directly to VCC.", H2 RFU "Reserved for Future Use: Balls designated as RFU are reserved by Numonyx for future device functionality and enhancement.", H3 VCC (power) "CORE Power Supply: Core (logic) source voltage. Writes to the flash array are inhibited when VCC =< Vlko. Caution: Device operation at invalid Vcc voltages should not be attempted.", H4 VSS (power) "GROUND: Ground reference for device logic voltages. Connect to system ground.", H6 VSS (power) "GROUND: Ground reference for device logic voltages. Connect to system ground.", H8 NC "No Connect: Lead is not internally connected; it may be driven or floated."